# Altium schematic symbol library SCH - RF - AMPLIFIER - RF FET AMP.SCHLIB: 1 symbol
Pins are listed as number, name and electrical type; pins without a type are passive.

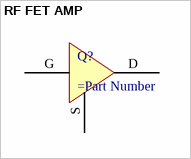
[diagram p0: symbol RF FET AMP]

## RF FET AMP
designator Q?
pins: D DRAIN, G GATE, S SOURCE